# EAGLE library part SJ-43516-SMT (library halcyonmod_Connectors)
CUI SJ-43516-SMT 3.5MM 3.5mm Headphone/Microphone Jack
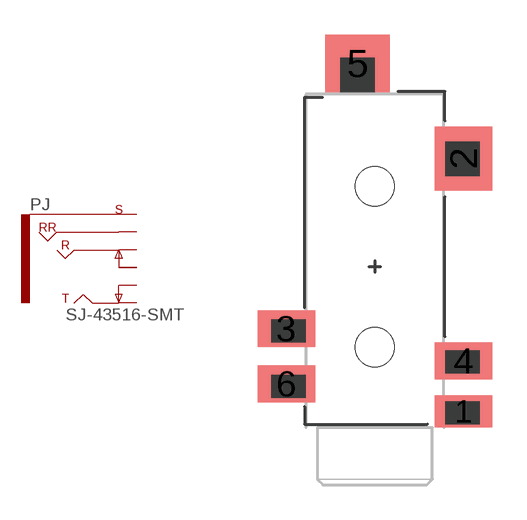
[diagram p11: symbol with the pads of SJ-43516-SMT; footprint SJ-43516-SMT]

Designator prefix PJ

## SJ-43516-SMT  [SJ-43516-SMT]
1  1
2  2
3  3
4  4
5  5
6  6

## Footprint SJ-43516-SMT (pad centres in mm)
SJ-43516-SMT
smd 2.5 x 1.4: 1 3.85,-6.3
smd 2.5 x 2.8: 2 3.85,4.7
smd 2.5 x 1.6: 3 -3.85,-2.7; 4 3.85,-4.1; 6 -3.85,-5.1
smd 2.8 x 2.5: 5 -0.75,8.85
hole 1.7 at 0,-3.5
hole 1.7 at 0,3.5